# EAGLE library part PH2X10 (library omcConnector)
PH2X3 - Two column pinheader with ten terminals per side Pole: 20 Column: 2 Pitch: 1.27mm Technology: THT
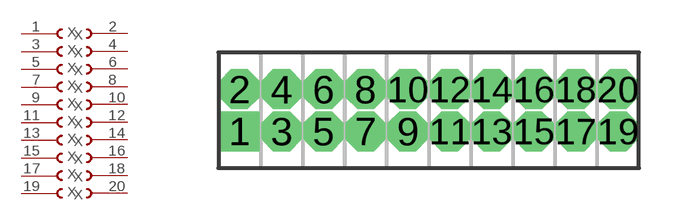
[diagram p5: symbol with the pads of STL21-10G-1.27; footprint STL21-10G-1.27]

Designator prefix X; gates G$1=PHDL G$2=PHDR G$3=PHDL G$4=PHDR G$5=PHDL G$6=PHDR G$7=PHDL G$8=PHDR G$9=PHDL G$10=PHDR G$11=PHDL G$12=PHDR G$13=PHDL G$14=PHDR G$15=PHDL G$16=PHDR G$17=PHDL G$18=PHDR G$19=PHDL G$20=PHDR

## PH2X10-P1.27 (#VENDOR: MPE GARRY,176-2-020-0-F-XS0; DIST#REICHELT#: SL 2X10G 1,27; VALUE: PH2X10)  [STL21-10G-1.27]
1  G$1:P$1
2  G$2:P$1
3  G$3:P$1
4  G$4:P$1
5  G$5:P$1
6  G$6:P$1
7  G$7:P$1
8  G$8:P$1
9  G$9:P$1
10  G$10:P$1
11  G$11:P$1
12  G$12:P$1
13  G$13:P$1
14  G$14:P$1
15  G$15:P$1
16  G$16:P$1
17  G$17:P$1
18  G$18:P$1
19  G$19:P$1
20  G$20:P$1

## Footprint STL21-10G-1.27 (pad centres in mm)
STL21-10G - Pin Header 1,27 mm Series 176 - 2X10 MPE-Garry Productside <http://www.mpegarry.de/index.php?lang=en&menu=16&s_product=STL21&product_group[]=5&s_parameter[1]=46&s_parameter[16]=6&action=Search&id_product=1762> Reichelt Datasheet <http://cdn-reichelt.de/documents/datenblatt/C140/SL%202X20G%201%2C27.pdf> Technical data: Property Value Gender Male Pitch (mm) 1,27 Mating contact size ☐ 0,40 Board termination Through hole Orientation to PCB Vertical No of contacts 6, 8, 10, 12, 14, ... 80 No of rows 2 Row distance (mm) 1,27 Polarising No Locking No Material contact Copper alloy Material insulator High temp. thermoplast UL94V-0 Rated current 1,0 A Rated voltage 100 VRMS / VDC Withstand voltage 300 VRMS for 1 minute Operating temperature -40°C to +105°C Max. processing temperature 260°C for 10 seconds Packaging Standard
drill 0.7 pad 1.016 square: 1 0,0
drill 0.7 pad 1.016 octagon: 2 0,1.27; 3 1.27,0; 4 1.27,1.27; 5 2.54,0; 6 2.54,1.27; 7 3.81,0; 8 3.81,1.27; 9 5.08,0; 10 5.08,1.27; 11 6.35,0; 12 6.35,1.27; 13 7.62,0; 14 7.62,1.27; 15 8.89,0; 16 8.89,1.27; 17 10.16,0; 18 10.16,1.27; 19 11.43,0; 20 11.43,1.27